# EAGLE library part ADXRS300V2 (library adxrs300)
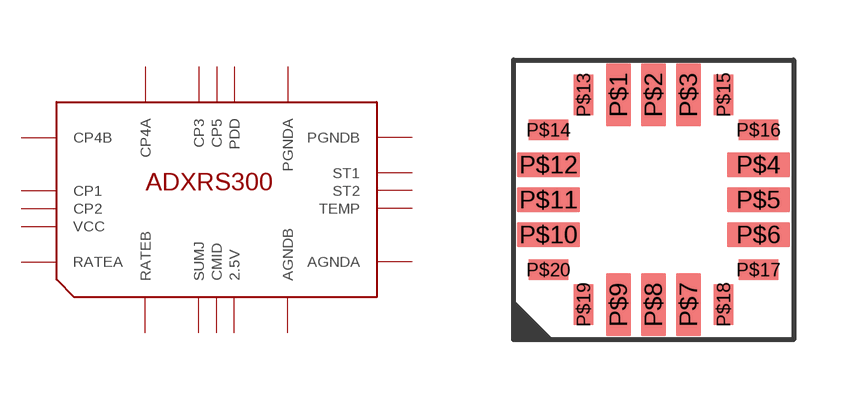
[diagram p0: symbol with the pads of ADXRS300; footprint ADXRS300]

Designator prefix -

## ADXRS300V2  [ADXRS300]
P$1  CP3
P$2  CP5
P$3  PDD
P$4  ST1
P$5  ST2
P$6  TEMP
P$7  2.5V
P$8  CMID
P$9  SUMJ
P$10  VCC
P$11  CP2
P$12  CP1
P$13  CP4A
P$14  CP4B
P$15  PGNDA
P$16  PGNDB
P$17  AGNDA
P$18  AGNDB
P$19  RATEA
P$20  RATEB

## Footprint ADXRS300 (pad centres in mm)
smd 0.635 x 1.57: P$1 2.625,-0.875; P$2 3.5,-0.875; P$3 4.375,-0.875; P$7 4.375,-6.125; P$8 3.5,-6.125; P$9 2.625,-6.125
smd 1.57 x 0.635: P$4 6.125,-2.625; P$5 6.125,-3.5; P$6 6.125,-4.375; P$10 0.875,-4.375; P$11 0.875,-3.5; P$12 0.875,-2.625
smd 0.508 x 1.016: P$13 1.75,-0.875; P$15 5.25,-0.875; P$18 5.25,-6.125; P$19 1.75,-6.125
smd 1.016 x 0.508: P$14 0.875,-1.75; P$16 6.125,-1.75; P$17 6.125,-5.25; P$20 0.875,-5.25